# Altium schematic symbol library Connectors - Card Edge - Edgeboard.SchLib: 2 symbols
Pins are listed as number, name and electrical type; pins without a type are passive.

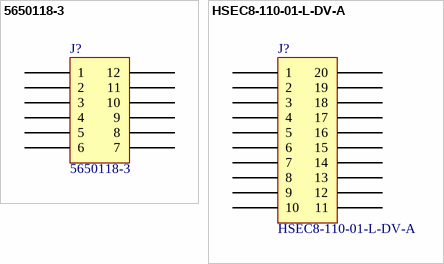
[diagram p0: symbols 5650118-3 to HSEC8-110-01-L-DV-A]

## 5650118-3
designator J?
CONN EDGE DUAL FMALE 12POS 0.100; Manufacturer: TE Connectivity AMP Connectors; Card Thickness: 0.054" ~ 0.070" (1.37mm ~ 1.78mm); Card Type: Non Specified - Dual Edge; Gender: Female; Number of Positions: 12; Number of Positions/Bay/Row: -55°C ~  85°C; Pitch: 0.100" (2.54mm); Part Number: 5650118-3; Color: Black; ComponentLink1Description: Datasheet; ComponentLink1URL: https://www.te.com/commerce/DocumentDelivery/DDEController?Action=srchrtrv&DocNm=5650118&DocType=Customer+Drawing&DocLang=English; ComponentLink2Description: DigiKey Link; ComponentLink2URL: http://digikey.com/product-detail/en/te-connectivity-amp-connectors/5650118-3/A115473-ND/2188158; Contact Finish: Gold; Contact Finish Thickness: 30.0µin (0.76µm); Contact Material: Phosphor Bronze; LastUpdated: 8/6/2020 10:58:17 PM; Lifecycle Status: Active; Minimum Order: 1; Mounting Type: Through Hole, Right Angle; Number of Rows: 2; Operating Temperature: -55°C ~  85°C; Packaging: Tray; Part Status: Active; Price: 2.50; Read Out: Dual; Series: Standard Edge II; Supplier 1: DigiKey; Supplier Part Number 1: A115473-ND; Termination: Solder
footprint TE 5650118-3
pins: 1, 2, 3, 4, 5, 6, 7, 8, 9, 10, 11, 12

## HSEC8-110-01-L-DV-A
designator J?
CONN EDGE DUAL FMALE 20POS 0.031; Manufacturer: Samtec Inc.; Card Thickness: 0.062" (1.57mm); Card Type: Non Specified - Dual Edge; Gender: Female; Number of Positions: 20; Number of Positions/Bay/Row: 10; Pitch: 0.031" (0.80mm); Part Number: HSEC8-110-01-L-DV-A; Color: Black; ComponentLink1Description: Datasheet; ComponentLink1URL: http://suddendocs.samtec.com/catalog_english/hsec8_dv.pdf; ComponentLink2Description: DigiKey Link; ComponentLink2URL: http://digikey.com/product-detail/en/samtec-inc/HSEC8-110-01-L-DV-A/SAM15496-ND/6693433; Contact Finish: Gold; Contact Finish Thickness: 10.0µin (0.25µm); Contact Material: Beryllium Copper; Contact Type: Cantilever; Features: Board Guide, Locking Ramp; LastUpdated: 8/6/2020 10:59:00 PM; Lifecycle Status: Active; Minimum Order: 1; Mounting Type: Surface Mount; Number of Rows: 2; Operating Temperature: -55°C ~ 125°C; Packaging: Tray; Part Status: Active; Price: 3.40; Read Out: Dual; Series: Edge Rate™ HSEC8; Supplier 1: DigiKey; Supplier Part Number 1: SAM15496-ND; Termination: Solder
footprint SAMTEC HSEC8-110-01-L-DV-A
pins: 1, 2, 3, 4, 5, 6, 7, 8, 9, 10, 11, 12, 13, 14, 15, 16, 17, 18, 19, 20